# EAGLE library part LM22678 (library My_TI)
LM22678/-Q1 42-V, 5-A SIMPLE SWITCHER® Step-Down Voltage Regulator • Wide Input Voltage Range: 4.5 V to 42 V • Internally Compensated Voltage Mode Control • Stable With Low ESR Ceramic Capacitors • Output Voltage Options: (Outputs as Low as 1.285 V Datasheet <http://www.ti.com/lit/ds/symlink/lm22678.pdf>
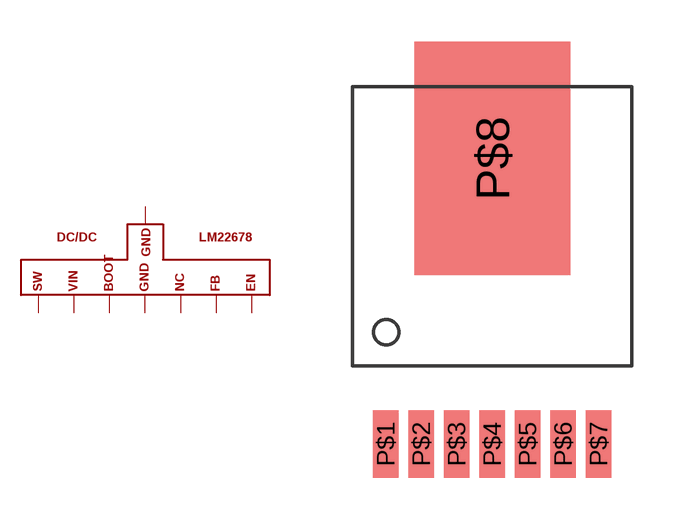
[diagram p55: symbol with the pads of TO-263_7PIN; footprint TO-263_7PIN]

Designator prefix DC/DC

## LM22678  [TO-263_7PIN]
P$1  P$1
P$2  P$2
P$3  P$3
P$4  P$4
P$5  P$5
P$6  P$6
P$7  P$7
P$8  P$8

## Footprint TO-263_7PIN (pad centres in mm)
smd 0.91 x 2.41: P$1 -3.81,0; P$2 -2.54,0; P$3 -1.27,0; P$4 0,0; P$5 1.27,0; P$6 2.54,0; P$7 3.81,0
smd 5.59 x 8.35: P$8 0,10.225